# EAGLE library part CH340 (library dpx-IC)
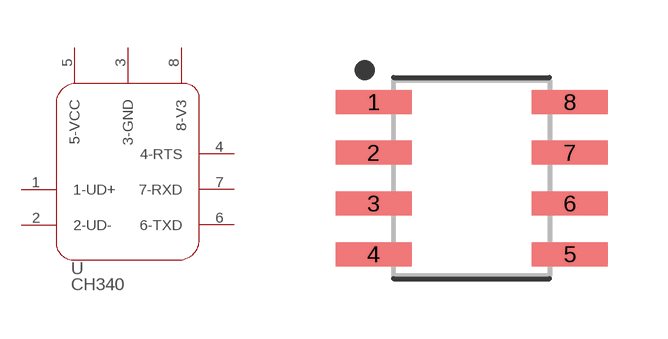
[diagram p0: symbol with the pads of SOIC127P600X144-8; footprint SOIC127P600X144-8]

Designator prefix -

## CH340N (LCPART: C2977777)  [SOIC127P600X144-8]
1  1-UD+
2  2-UD-
3  3-GND
4  4-RTS
5  5-VCC
6  6-TXD
7  7-RXD
8  8-V3

## Footprint SOIC127P600X144-8 (pad centres in mm)
8-SOIC, 1.27 mm pitch, 6.00 mm span, 4.90 X 3.90 X 1.44 mm body 8-pin SOIC package with 1.27 mm pitch, 6.00 mm span with body size 4.90 X 3.90 X 1.44 mm
smd 1.901 x 0.599: 1 -2.455,1.905; 2 -2.455,0.635; 3 -2.455,-0.635; 4 -2.455,-1.905; 5 2.455,-1.905; 6 2.455,-0.635; 7 2.455,0.635; 8 2.455,1.905